# Altium footprint library outros_PCBLIB.PcbLib: 37 footprints (part 1 of 3)
Each footprint in its own frame and in the unit in brackets; x right, y up, seen from the top. Pads: shape width x height; smd on the part's side, far side on the other; paste and mask are expansions set on the pad; w line width, h text height; cw(c..) or ccw(c..) is an arc to the next point about the centre after c.
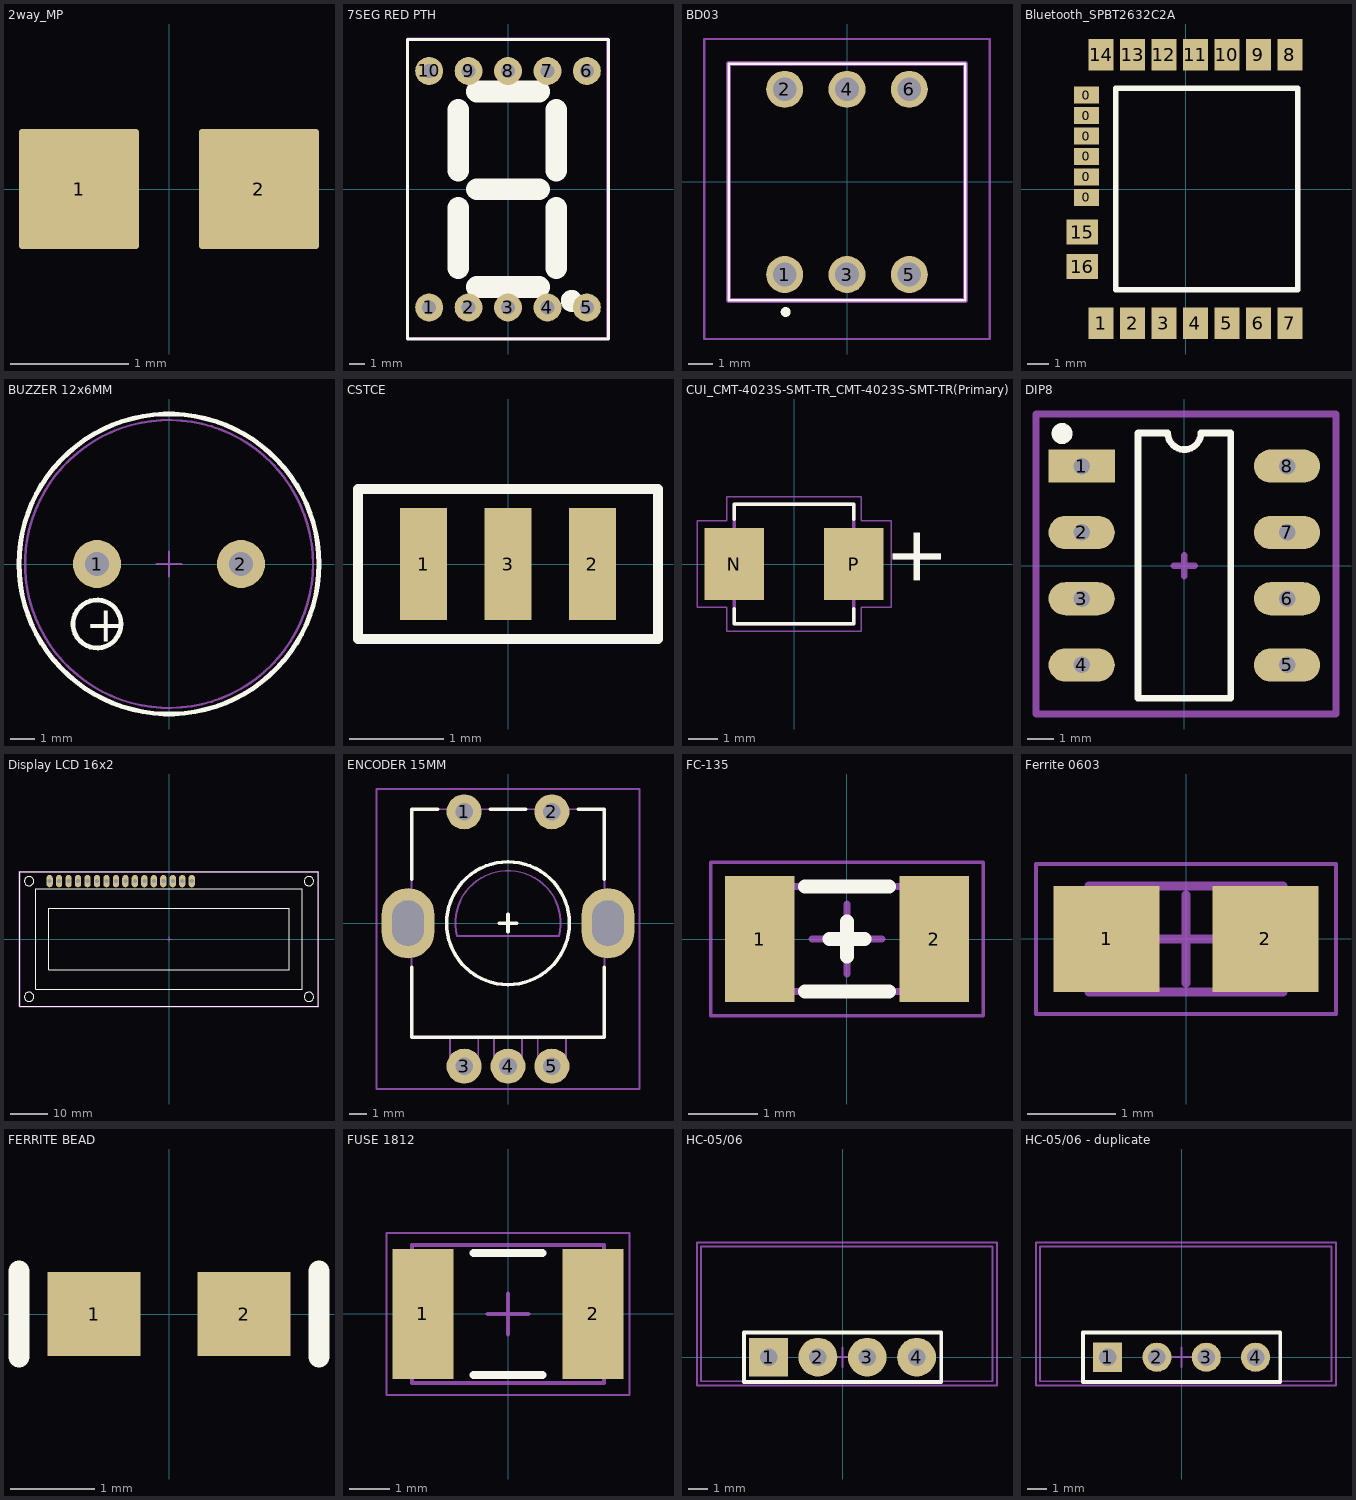
[diagram p0: the footprints below, top view; thin cyan lines are the x and y axes]

## 2way_MP [mil] "2 way medium power net tie junction"
height 1
pads (2):
  rrect5% 40x40 smd paste-100: 1(-30,0) 2(30,0)

## 7SEG RED PTH [mm]
pads (10):
  round 1.8 hole 0.9: 1(-5.08,-7.62) 2(-2.54,-7.62) 3(0,-7.62) 4(2.54,-7.62) 5(5.08,-7.62) 6(5.08,7.62) 7(2.54,7.62) 8(0,7.62) 9(-2.54,7.62) 10(-5.08,7.62)
Top Overlay:
  circle w1.2: c4.1,-7.2 r0.1
  lines w0.2: -6.477,-9.652 6.477,-9.652 6.477,9.652 -6.477,9.652 -6.477,-9.652
  lines w1.4: -3.2,-5.1 -3.2,-1.2 ; -3.2,1.2 -3.2,5.1 ; -2,-6.3 2,-6.3 ; -2,0 2,0 ; -2,6.3 2,6.3 ; 3.1,-5.1 3.1,-1.2 ; 3.1,1.2 3.1,5.1
Mechanical 15:
  lines w0.2: -0.5,0 0.5,0 ; 0,-0.5 0,0.5 ; -6.48,-9.62 6.42,-9.62 6.42,9.68 -6.48,9.68 -6.48,-9.62
Mechanical 29:
  text "1" at -4.1,-9 h0.5
  text ".Designator" at -6.3,10.2 h0.5
3D body "7SEG RED PTH.STEP": height 8.2, standoff -3.8, extent -6.38,-9.52 6.32,9.53

## BD03 [mm]
pads (6):
  round 1.509 hole 0.97: 1(-2.54,-3.775) 2(-2.54,3.775) 3(0,-3.775) 4(0,3.775) 5(2.54,-3.775) 6(2.54,3.775)
Top Overlay:
  lines w0.1: -4.825,-4.825 -4.825,4.825 4.825,4.825 4.825,-4.825 -4.825,-4.825
  lines w0.2: -2.6,-5.3 ccw(c-2.5,-5.3) -2.4,-5.3 ccw(c-2.5,-5.3) -2.6,-5.3
Mechanical 13:
  lines w0.2: -4.825,-4.825 -4.825,4.825 4.825,4.825 4.825,-4.825 -4.825,-4.825
Mechanical 15:
  lines w0.1: -5.825,-6.4 -5.825,5.825 5.825,5.825 5.825,-6.4 -5.825,-6.4
3D body: height 0.25, standoff 0, extent -1.905,-0.127 -1.905,-0.127
3D body "DIP Switch x03 Red.stp": height 6.85, standoff -3.4, extent -4.318,-4.95 4.302,4.95

## Bluetooth_SPBT2632C2A [mm]
pads (22):
  rect 1.2x0.8 smd: 0(-4.75,-0.4) 0(-4.75,0.575) 0(-4.75,1.55) 0(-4.75,2.525) 0(-4.75,3.5) 0(-4.75,4.475)
  rect 1.2x1.5 smd: 1(-4.05,-6.4) 2(-2.55,-6.4) 3(-1.05,-6.4) 4(0.45,-6.4) 5(1.95,-6.4) 6(3.45,-6.4) 7(4.95,-6.4) 8(4.95,6.4) 9(3.45,6.4) 10(1.95,6.4) 11(0.45,6.4) 12(-1.05,6.4) 13(-2.55,6.4) 14(-4.05,6.4)
  rect 1.5x1.2 smd: 15(-4.95,-2.05) 16(-4.95,-3.7)
Top Overlay:
  lines w0.254: -3.35,-4.8 -3.35,4.8 5.325,4.8 5.325,-4.8 -3.35,-4.8
3D body "CAD_Bluetooth.STEP": height 2.9, standoff 0, extent -5.413,-6.788 6.187,6.712

## BUZZER 12x6MM [mm] "BUZZER 12x6MM"
height 6.33
pads (2):
  round 2 hole 1: 1(-3,0) 2(3,0)
Top Overlay:
  circle w0.2: c0,0 r6.25
  circle w0.2: c-3,-2.5 r1
  text "+" at -3.5,-3.25 h1.5
Mechanical 13:
  circle w0.1: c0,0 r6
Mechanical 15:
  circle w0.1: c0,0 r6.25
  lines w0.1: -0.508,0 0.508,0 ; 0,-0.508 0,0.508
Mechanical 29:
  text ".Designator" at 0,0 h4
3D body "Buzzer.STEP": height 6.33, standoff -2, extent -6,-6 6,6

## CSTCE [mm]
pads (3):
  rect 0.5x1.2 smd: 1(-0.9,0) 2(0.9,0) 3(0,0)
Top Overlay:
  lines w0.102: -1.6,-0.8 -1.6,0.8 1.6,0.8 1.6,-0.8 -1.6,-0.8
3D body "SW3dPS-CSTCE_V-1.STEP": height 1.02, standoff -0.09, extent -1.6,-0.635 1.6,0.665

## CUI_CMT-4023S-SMT-TR_CMT-4023S-SMT-TR(Primary) [mm]
pads (2):
  rect 2x2.4 smd: N(-2,0) P(2,0)
Top Overlay:
  lines w0.127: -2,-1.5 -2,-2 2,-2 2,-1.5 ; -2,1.5 -2,2 2,2 2,1.5
  text "+" at 4.92,-0.831 h1.88
Mechanical 1:
  lines w0.05: -3.25,-1.45 -2.25,-1.45 -2.25,-2.25 2.25,-2.25 2.25,-1.45 3.25,-1.45 3.25,1.45 2.25,1.45 2.25,2.25 -2.25,2.25 -2.25,1.45 -3.25,1.45 -3.25,-1.45
  lines w0.127: -2,-2 2,-2 2,2 -2,2 -2,-2
3D body "CUI_CMT-4023S-SMT.step": height 2, standoff 0, extent -2,-2 2,2

## DIP8 [mil]
pads (8):
  rect 100x50 hole 25: 1(-155,150)
  oval 100x50 hole 25: 2(-155,50) 3(-155,-50) 4(-155,-150) 5(155,-150) 6(155,-50) 7(155,50) 8(155,150)
Top Overlay:
  circle w15.75: c-184.53,199.21 r7.87
  lines w10: -70,-200 -70,200 -25,200 ccw(c0,200) 25,200 70,200 70,-200 -70,-200
Mechanical 15:
  lines w10: -15.75,0 15.75,0 ; 0,-15.75 0,15.75 ; -223.9,-224.02 228.86,-224.02 228.86,228.74 -223.9,228.74 -223.9,-224.02
3D body "DIP8.SLDPRT": height 185.04, standoff -102.36, extent -152.44,-194.49 157.4,191.34

## Display LCD 16x2 [mm] "Display LCD 16x2; Body 80.0 x 36.0 mm"
pads (16):
  oval 1.7x3.3 hole 1.1: 1(-32,15.5) 2(-29.46,15.5) 3(-26.92,15.5) 4(-24.38,15.5) 5(-21.84,15.5) 6(-19.3,15.5) 7(-16.76,15.5) 8(-14.22,15.5) 9(-11.68,15.5) 10(-9.14,15.5) 11(-6.6,15.5) 12(-4.06,15.5) 13(-1.52,15.5) 14(1.02,15.5) 15(3.56,15.5) 16(6.1,15.5)
Top Overlay:
  circle w0.254: c-37.5,15.5 r1.25
  circle w0.254: c-37.5,-15.5 r1.25
  circle w0.254: c37.5,-15.5 r1.25
  circle w0.254: c37.5,15.5 r1.25
  lines w0.305: -40,-18 -40,18 40,18 40,-18 -40,-18 ; -35.65,-13.4 -35.65,13.4 35.65,13.4 35.65,-13.4 -35.65,-13.4 ; -32.25,-8.2 -32.25,8.2 32.25,8.2 32.25,-8.2 -32.25,-8.2
Mechanical 13:
  lines w0.1: -39.85,-18 40.15,-18 40.15,18 -39.85,18 -39.85,-18
Mechanical 15:
  lines w0.1: -0.635,0 0.635,0 ; 0,-0.635 0,0.635 ; -40.2,-18.2 40.2,-18.2 40.2,18.2 -40.2,18.2 -40.2,-18.2
Mechanical 29:
  text ".Designator" at 0,0 h2
3D body "LCD_16x2.STEP": height 22.45, standoff -3.06, extent -39.85,-18.009 40.15,17.991

## ENCODER 15MM [mm] "ENCODER 15MM"
height 21
pads (7):
  round 2 hole 1: 1(-2.5,6.35) 2(2.5,6.35) 3(-2.5,-8.15) 4(0,-8.15) 5(2.5,-8.15)
  oval 3x4 hole 1.8 slot 2.6 at 90 deg: ""(-5.7,0) ""(5.7,0)
Top Overlay:
  circle w0.2: c0,0 r3.5
  lines w0.2: -5.5,-2.5 -5.5,-6.5 5.5,-6.5 5.5,-2.5 ; -5.5,2.5 -5.5,6.5 -4,6.5 ; -1,6.5 1,6.5 ; -0.5,0 0.5,0 ; 0,-0.5 0,0.5 ; 4,6.5 5.5,6.5 5.5,2.5
Mechanical 13:
  circle w0.1: c0,0 r3.5
  lines w0.1: -5.55,-1 -6.85,-1 -6.85,1 -5.55,1 ; -3.3,-6.5 -3.3,-8.35 -1.7,-8.35 -1.7,-6.5 ; -0.8,-6.5 -0.8,-8.35 0.8,-8.35 0.8,-6.5 ; 1.7,-6.5 1.7,-8.35 3.3,-8.35 3.3,-6.5 ; 5.5,-1 6.8,-1 6.8,1 5.5,1 ; -5.5,-6.5 5.5,-6.5 5.5,6.5 -5.5,6.5 -5.5,-6.5 ; -2.91,-0.728 cw(c0,0) 2.91,-0.728 -2.91,-0.728
Mechanical 15:
  lines w0.1: -0.5,0 0.5,0 ; 0,-0.5 0,0.5 ; -7.5,-9.45 7.5,-9.45 7.5,7.65 -7.5,7.65 -7.5,-9.45
Mechanical 29:
  text ".Designator" at 0,0 h1
3D body "Encoder_15mm.STEP": height 21.2, standoff -3.28, extent -6.845,-8.33 6.808,6.5

## FC-135 [mm]
pads (2):
  rect 1x1.8 smd: 1(-1.25,0) 2(1.25,0)
Top Overlay:
  lines w0.2: -0.6,-0.75 0.6,-0.75 ; -0.6,0.75 0.6,0.75 ; -0.25,0 0.25,0 ; 0,-0.25 0,0.25
Mechanical 3:
  lines w0.1: -1.6,-0.55 cw(c-1.6,-0.75) -1.4,-0.75 1.4,-0.75 cw(c1.6,-0.75) 1.6,-0.55 1.6,0.55 cw(c1.6,0.75) 1.4,0.75 -1.4,0.75 cw(c-1.6,0.75) -1.6,0.55 -1.6,-0.55
Mechanical 13:
  lines w0.1: -1.6,-0.55 cw(c-1.6,-0.75) -1.4,-0.75 1.4,-0.75 cw(c1.6,-0.75) 1.6,-0.55 1.6,0.55 cw(c1.6,0.75) 1.4,0.75 -1.4,0.75 cw(c-1.6,0.75) -1.6,0.55 -1.6,-0.55
Mechanical 15:
  lines w0.05: -1.95,-1.1 1.95,-1.1 1.95,1.1 -1.95,1.1 -1.95,-1.1
  lines w0.1: -0.5,0 0.5,0 ; 0,-0.5 0,0.5
3D body "User Library-Siward_SX3215.step": height 0.81, standoff 0, extent -1.6,-0.75 1.6,0.75
3D body: height 0.81, standoff 0.15, extent -1.2,-0.6 1.2,0.6

## Ferrite 0603 [mm]
height 0.9
pads (2):
  rect 1.2x1.2 smd: 1(-0.9,0) 2(0.9,0)
Mechanical 13:
  lines w0.1: -1.1,-0.6 -1.1,0.6 1.1,0.6 1.1,-0.6 -1.1,-0.6
Mechanical 15:
  lines w0.05: -1.7,-0.85 -1.7,0.85 1.7,0.85 1.7,-0.85 -1.7,-0.85
  lines w0.1: -0.5,0 0.5,0 ; 0,-0.5 0,0.5
3D body "Chip2PinSM127P600-8N.step": height 0.9, standoff 0, extent -1.1,-0.6 1.1,0.6

## FERRITE BEAD [mm]
height 0.87
pads (2):
  rect 1.1x1 smd: 1(-0.889,0) 2(0.889,0)
Top Overlay:
  lines w0.254: -1.778,-0.508 -1.778,0.508 ; 1.778,-0.508 1.778,0.508
3D body "ferrite_bead.STEP": height 0.9, standoff 0, extent -0.8,-0.4 0.8,0.4

## FUSE 1812 [mm] "Chip Resistor, 2-Leads, Body 4,55x3,24mm, IPC Medium Density"
height 0.85
pads (2):
  rect 1.5x3.2 smd: 1(-2.1,0) 2(2.1,0)
Top Overlay:
  lines w0.2: -0.85,-1.5 0.85,-1.5 ; -0.85,1.5 0.85,1.5
Mechanical 13:
  lines w0.1: -2.365,-1.705 -2.365,1.705 2.365,1.705 2.365,-1.705 -2.365,-1.705
Mechanical 15:
  lines w0.05: -3,-2 -3,2 3,2 3,-2 -3,-2
  lines w0.1: -0.5,0 0.5,0 ; 0,-0.5 0,0.5
3D body "FUSE MSMF050.step": height 0.85, standoff 0, extent -2.365,-1.705 2.365,1.705

## HC-05/06 [mm] "HC-05/06 Bluetooth Module"
height 45.33
pads (4):
  rect 2x2 hole 0.9: 1(-3.81,0)
  round 2 hole 0.9: 2(-1.27,0) 3(1.27,0) 4(3.81,0)
Top Overlay:
  lines w0.2: -5.08,-1.27 -5.08,1.27 5.08,1.27 5.08,-1.27 -5.08,-1.27
Mechanical 13:
  lines w0.1: -7.29,-1.238 -7.29,5.7 7.71,5.7 7.71,-1.238 -7.29,-1.238
Mechanical 15:
  lines w0.1: -0.5,0 0.5,0 ; 0,-0.5 0,0.5 ; -7.5,-1.45 7.95,-1.45 7.95,5.9 -7.5,5.9 -7.5,-1.45
Mechanical 29:
  text ".Designator" at 0,0 h1
3D body "HC-06.STEP": height 45.34, standoff -3.28, extent -7.29,-1.238 7.71,5.7

## HC-05/06 - duplicate [mm] "HC-05/06 Bluetooth Module"
height 45.33
pads (4):
  rect 1.5x1.5 hole 0.9: 1(-3.81,0)
  round 1.5 hole 0.9: 2(-1.27,0) 3(1.27,0) 4(3.81,0)
Top Overlay:
  lines w0.2: -5.08,-1.27 5.08,-1.27 5.08,1.27 -5.08,1.27 -5.08,-1.27
Mechanical 13:
  lines w0.1: -7.29,-1.238 7.71,-1.238 7.71,5.7 -7.29,5.7 -7.29,-1.238
Mechanical 15:
  lines w0.1: -0.5,0 0.5,0 ; 0,-0.5 0,0.5 ; -7.5,-1.45 -7.5,5.9 7.95,5.9 7.95,-1.45 -7.5,-1.45
Mechanical 29:
  text ".Designator" at 0,0 h1
3D body "HC-06.STEP": height 45.34, standoff -3.28, extent -7.29,-1.238 7.71,5.7